# Altium integrated library ICs.IntLib: 20 symbols (part 2 of 2)
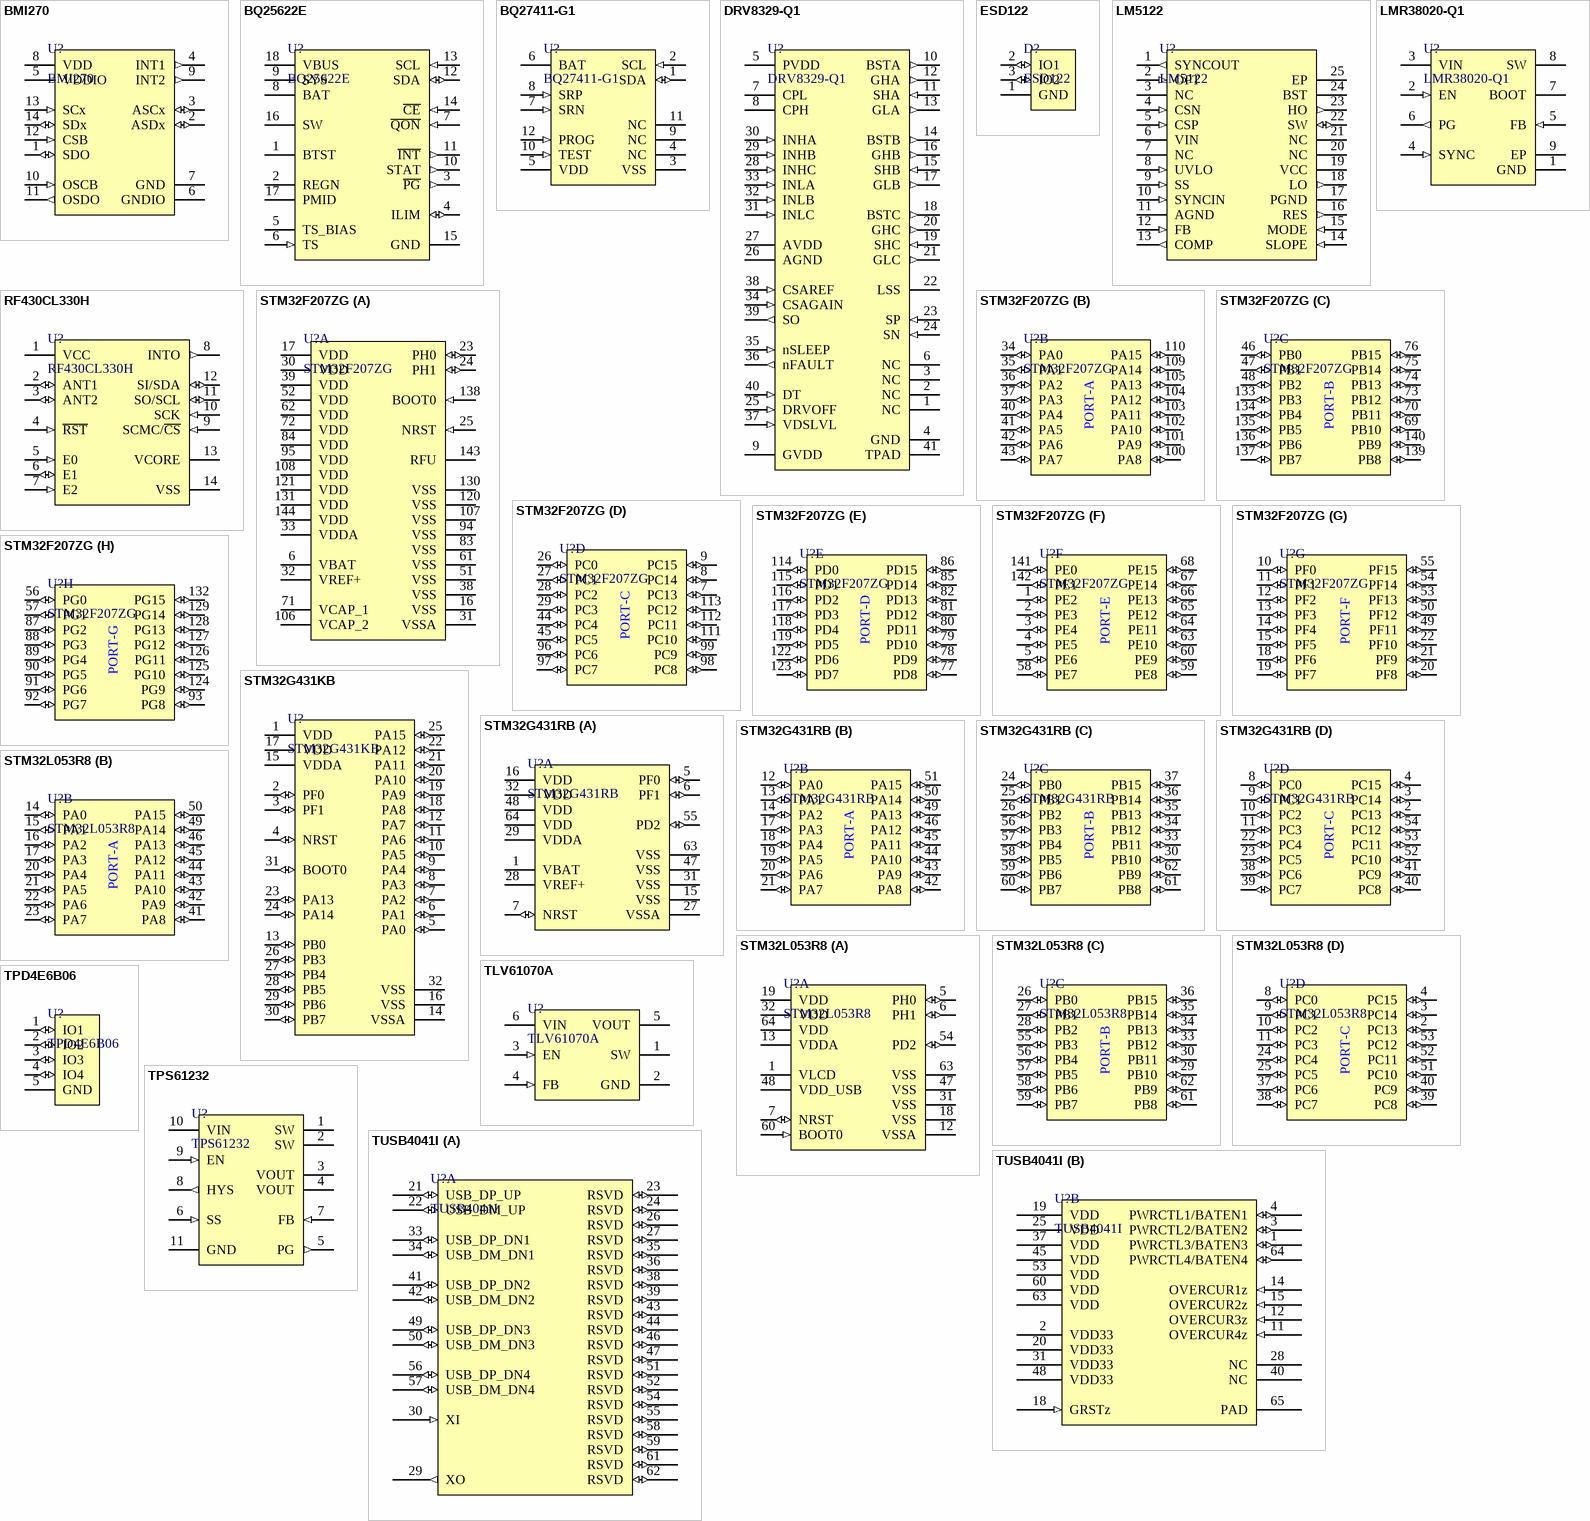
[diagram p2: symbols BMI270 to TUSB4041I]

## TPS61232
designator U?
5-A, 5-V Fixed Output Voltage High Efficiency Synchronous Boost Converter; Manufacturer 1: Texas Instruments; Manufacturer Part Number 1: TPS61232DRCR; Manufacturer Lifecycle Status: ACTIVE; Description 1: Switching Regulator, Current-mode, 6A, 2000kHz Switching Freq-Max, BICMOS, PDSO10; Category 1: Voltage Regulators - Switching; Efficiency: 96%; Max Duty Cycle: 90%; Max Input Voltage: 5.5V; Max Junction Temperature (Tj): 125°C; Max Output Current 1: 2.1A; Min Input Voltage: 2.3V; Mount 1: Surface Mount; Number of Outputs 1: 1; Number of Pins 1: 10; Output Current 1: 5A; Output Voltage 1: 5V; Quiescent Current: 35µA; Switching Frequency: 2MHz; RoHS 1: Compliant; Contact Plating: Gold; Height: 1mm; Lead Free 1: Lead Free; Length: 3mm; Lifecycle Status: Production; Max Operating Temperature 1: 85°C; Max Supply Voltage 1: 5.5V; Min Operating Temperature 1: -40°C; Min Supply Voltage 1: 2.3V; Operating Supply Voltage: 5.5V; Output Type: Fixed; Schedule B: 8542390000, 8542390000|8542390000|8542390000|8542390000|8542390000; Thickness: 900µm; Topology: Boost; Width: 3mm; ComponentLink3URL: https://datasheet.octopart.com:443/TPS61232DRCR-Texas-Instruments-datasheet-41205295.pdf?src-supplier=Texas+Instruments; ComponentLink3Description: https://datasheet.octopart.com:443/TPS61232DRCR-Texas-Instruments-datasheet-41205295.pdf?src-supplier=Texas+Instruments; Manufacturer Part Number 2: TPS61232DRCT; Supplier 1: DigiKey; Supplier Part Number 1: 296-44498-1-ND; Supplier 2: DigiKey; Supplier Part Number 2: 296-44498-6-ND; Supplier 3: DigiKey; Supplier Part Number 3: 296-44498-2-ND; Supplier 4: Mouser; Supplier Part Number 4: 595-TPS61232DRCR; Supplier 5: LCSC; Supplier Part Number 5: C544315; Supplier 6: Arrow Electronics; Supplier Part Number 6: TPS61232DRCT; Supplier 7: DigiKey; Supplier Part Number 7: 296-37990-1-ND; Supplier 8: DigiKey; Supplier Part Number 8: 296-37990-6-ND; Supplier 9: DigiKey; Supplier Part Number 9: 296-37990-2-ND; Supplier 10: Mouser; Supplier Part Number 10: 595-TPS61232DRCT
footprint TI-DRC0010G (TPS61232)
simulation model TPS61232_TRANS (Model Description)
pins: 1 SW (power) "The switch pin of the converter. It is connected to the drain of the internal Power MOSFETs.", 2 SW (power) "The switch pin of the converter. It is connected to the drain of the internal Power MOSFETs.", 3 VOUT (power) "Boost converter output pin.", 4 VOUT (power) "Boost converter output pin.", 5 PG (out) "Power good open drain output. Can be left floating if not used.", 6 SS (in) "Soft startup pin. A soft startup capacitor connects to this pin to set the soft start time.", 7 FB (in) "Voltage feedback of adjustable versions. Must be connected to VOUT on fixed output voltage version.", 8 HYS (out) "EN hysteresis program pin. Can be left floating if not used.", 9 EN (in) "Enable logic input. Logic HIGH enables the device. Logic LOW disables the device and turns it into shutdown mode. This pin must be terminated.", 10 VIN (power) "Supply voltage", 11 GND (power) "Ground"

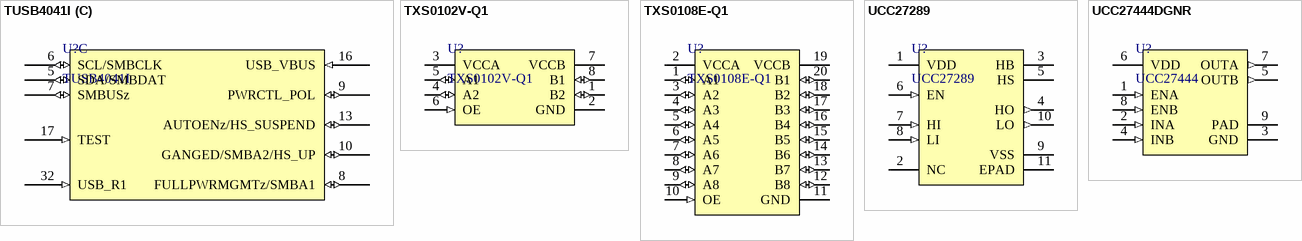
[diagram p1: symbols TUSB4041I to UCC27444DGNR]

## TUSB4041I
designator U?
4-port high-speed 480-Mbps USB 2.0 hub; Manufacturer 1: Texas Instruments; Manufacturer Part Number 1: TUSB4041IPAPR; Description 1: 4-port high-speed 480-Mbps USB 2.0 hub 64-HTQFP -40 to 85; Category 1: USB Interface ICs; Case/Package 1: HTQFP; Number of Pins 1: 64; Packaging 1: Cut Tape; Min Supply Voltage 1: 3mV; Max Supply Voltage 1: 3.6V; Data Rate: 480Mbps; Number of Ports: 4; USB Standard: USB 2.0; RoHS 1: Yes; Min Operating Temperature 1: -40°C; Max Operating Temperature 1: 85°C; Interface 1: USB; Series: -; Lead Free 1: Lead Free; RoHS Compliant 1: Yes; Reach SVHC Compliant: No; ComponentLink1URL: http://www.ti.com/general/docs/lit/getliterature.tsp?genericPartNumber=TUSB4041I&amp;&amp;fileType=pdf&src-supplier=Farnell; ComponentLink1Description: http://www.ti.com/general/docs/lit/getliterature.tsp?genericPartNumber=TUSB4041I&amp;&amp;fileType=pdf&src-supplier=Farnell; Manufacturer Part Number 2: TUSB4041IPAP; Supplier 1: Digi-Key; Supplier Part Number 1: 296-43143-1-ND; Supplier 2: Digi-Key; Supplier Part Number 2: 296-43143-6-ND; Supplier 3: Digi-Key; Supplier Part Number 3: 296-43143-2-ND; Supplier 4: Texas Instruments; Supplier Part Number 4: TUSB4041IPAPR; Supplier 5: Mouser; Supplier Part Number 5: 595-TUSB4041IPAPR; Supplier 6: Newark; Supplier Part Number 6: 28AH6281; Supplier 7: Farnell; Supplier Part Number 7: 3009584; Supplier 8: Farnell; Supplier Part Number 8: 3009584RL; Supplier 9: Digi-Key; Supplier Part Number 9: 296-46550-5-ND; Supplier 10: Texas Instruments; Supplier Part Number 10: TUSB4041IPAP; Supplier 11: Mouser; Supplier Part Number 11: 595-TUSB4041IPAP
footprint TI-PAP0064M (TUSB4041I)
ibis TUSB4041 (4-port high-speed 480-Mbps USB 2.0 hub)
part A pins: 21 USB_DP_UP (io) "USB high-speed differential transceiver (positive)", 22 USB_DM_UP (io) "USB high-speed differential transceiver (negative)", 23 RSVD (io) "Reserved. For internal use only and leave unconnected on the PCB", 24 RSVD (io) "Reserved. For internal use only and leave unconnected on the PCB", 26 RSVD (io) "Reserved. For internal use only and leave unconnected on the PCB", 27 RSVD (io) "Reserved. For internal use only and leave unconnected on the PCB", 29 XO (out) "Crystal output", 30 XI (in) "Crystal input", 33 USB_DP_DN1 (io) "USB high-speed differential transceiver (positive)", 34 USB_DM_DN1 (io) "USB high-speed differential transceiver (negative)", 35 RSVD (io) "Reserved. For internal use only and leave unconnected on the PCB", 36 RSVD (io) "Reserved. For internal use only and leave unconnected on the PCB", 38 RSVD (io) "Reserved. For internal use only and leave unconnected on the PCB", 39 RSVD (io) "Reserved. For internal use only and leave unconnected on the PCB", 41 USB_DP_DN2 (io) "USB high-speed differential transceiver (positive)", 42 USB_DM_DN2 (io) "USB high-speed differential transceiver (negative)", 43 RSVD (io) "Reserved. For internal use only and leave unconnected on the PCB", 44 RSVD (io) "Reserved. For internal use only and leave unconnected on the PCB", 46 RSVD (io) "Reserved. For internal use only and leave unconnected on the PCB", 47 RSVD (io) "Reserved. For internal use only and leave unconnected on the PCB", 49 USB_DP_DN3 (io) "USB high-speed differential transceiver (positive)", 50 USB_DM_DN3 (io) "USB high-speed differential transceiver (negative)", 51 RSVD (io) "Reserved. For internal use only and leave unconnected on the PCB", 52 RSVD (io) "Reserved. For internal use only and leave unconnected on the PCB", 54 RSVD (io) "Reserved. For internal use only and leave unconnected on the PCB", 55 RSVD (io) "Reserved. For internal use only and leave unconnected on the PCB", 56 USB_DP_DN4 (io) "USB high-speed differential transceiver (positive)", 57 USB_DM_DN4 (io) "USB high-speed differential transceiver (negative)", 58 RSVD (io) "Reserved. For internal use only and leave unconnected on the PCB", 59 RSVD (io) "Reserved. For internal use only and leave unconnected on the PCB", 61 RSVD (io) "Reserved. For internal use only and leave unconnected on the PCB", 62 RSVD (io) "Reserved. For internal use only and leave unconnected on the PCB"
part B pins: 1 PWRCTL3/BATEN3 (io) "The pin is used for control of the downstream power switch for port 3", 2 VDD33 (power) "3.3-V power rail", 3 PWRCTL2/BATEN2 (io) "The pin is used for control of the downstream power switch for port 2", 4 PWRCTL1/BATEN1 (io) "The pin is used for control of the downstream power switch for port 1", 11 OVERCUR4z (in) "USB port 4 overcurrent detection.", 12 OVERCUR3z (in) "USB port 3 overcurrent detection.", 14 OVERCUR1z (in) "USB port 1 overcurrent detection.", 15 OVERCUR2z (in) "USB port 2 overcurrent detection.", 18 GRSTz (in) "Global power reset", 19 VDD (power) "1.1-V power rail", 20 VDD33 (power) "3.3-V power rail", 25 VDD (power) "1.1-V power rail", 28 NC "No connection, leave floating", 31 VDD33 (power) "3.3-V power rail", 37 VDD (power) "1.1-V power rail", 40 NC "No connection, leave floating", 45 VDD (power) "1.1-V power rail", 48 VDD33 (power) "3.3-V power rail", 53 VDD (power) "1.1-V power rail", 60 VDD (power) "1.1-V power rail", 63 VDD (power) "1.1-V power rail", 64 PWRCTL4/BATEN4 (io) "The pin is used for control of the downstream power switch for port 4", 65 PAD (power) "Ground"
part C pins: 5 SDA/SMBDAT (io) "I2C data/SMBus data", 6 SCL/SMBCLK (io) "I2C clock/SMBus clock", 7 SMBUSz (io) "I2C/SMBus mode select", 8 FULLPWRMGMTz/SMBA1 (io) "Full power management enable/SMBus address bit 1", 9 PWRCTL_POL (io) "Power control polarity", 10 GANGED/SMBA2/HS_UP (io) "Ganged operation enable/SMBus address bit 2/HS connection status upstream port", 13 AUTOENz/HS_SUSPEND (io) "Automatic charge mode enable/HS suspend status", 16 USB_VBUS (in) "USB upstream port power monitor", 17 TEST (in) "This pin is reserved for factory test.", 32 USB_R1 (in) "Precision resistor reference"

## TXS0102V-Q1
designator U?
2-Bit Bi-Directional, Level-Shifting, Voltage Translator for Open-Drain and Push-Pull Applications; Manufacturer 1: Texas Instruments; Manufacturer Part Number 1: TXS0102VQDCURQ1; Manufacturer Lifecycle Status: ACTIVE; Description 1: Automotive 2-bit bidirectional level shifter for open-drain and push-pull applications 8-VSSOP -40 to 125; Category 1: Voltage Level Shifters; Case/Package 1: VSSOP; Number of Bits: 2; Number of Pins 1: 8; Supplier 1: DigiKey; Supplier Part Number 1: 296-TXS0102VQDCURQ1CT-ND; RoHS 1: Compliant; Height: 900µm; Length: 2.3mm; Lifecycle Status: Production; Thickness: 850µm; Topology: Push-Pull; Width: 2mm; ComponentLink1URL: https://sigma.octopart.com:443/167215082/technical_drawing/Texas-Instruments-TXS0102VQDCURQ1.pdf?src-supplier=Texas+Instruments; ComponentLink1Description: https://sigma.octopart.com:443/167215082/technical_drawing/Texas-Instruments-TXS0102VQDCURQ1.pdf?src-supplier=Texas+Instruments; Supplier 2: DigiKey; Supplier Part Number 2: 296-TXS0102VQDCURQ1DKR-ND; Supplier 3: DigiKey; Supplier Part Number 3: 296-TXS0102VQDCURQ1TR-ND; Supplier 4: Mouser; Supplier Part Number 4: 595-TXS0102VQDCURQ1; Supplier 5: Arrow Electronics; Supplier Part Number 5: TXS0102VQDCURQ1; Supplier 6: LCSC; Supplier Part Number 6: C42349189
footprint TI-DCU0008A (TXS0102V-Q1)
pins: 1 B2 (io) "Input/output B2. Referenced to VCCB.", 2 GND (power) "Ground", 3 VCCA (power) "A-port supply voltage. 1.65V ≤ VCCA  ≤ 3.6V and VCCA  ≤ VCCB", 4 A2 (io) "Input/output A2. Referenced to VCCA", 5 A1 (io) "Input/output A1. Referenced to VCCA", 6 OE (in) "Output enable (active High). Pull OE low to place all outputs in 3-state mode. Referenced to VCCA.", 7 VCCB (power) "B-port supply voltage. 2.3V ≤ VCCB  ≤ 5.5V", 8 B1 (io) "Input/output B1. Referenced to VCCB."

## TXS0108E-Q1
designator U?
8-Bit Bi-directional, Level-Shifting, Voltage Translator for Open-Drain and Push-Pull Applications; Manufacturer 1: Texas Instruments; Manufacturer Part Number 1: TXS0108EQDGSRQ1; Manufacturer Lifecycle Status: ACTIVE; Description 1: Automotive eight-bit bidirectional voltage level shifter for open-drain and push-pull applications 20-VSSOP -40 to 125; Category 1: Voltage Level Shifters; Case/Package 1: VSSOP; Number of Bits: 8; Number of Pins 1: 20; Supplier 1: DigiKey; Supplier Part Number 1: 296-TXS0108EQDGSRQ1TR-ND; RoHS 1: Compliant; Height: 1.1mm; Length: 5.1mm; Lifecycle Status: Production; Thickness: 950µm; Topology: Push-Pull; Width: 3mm; ComponentLink1URL: https://sigma.octopart.com:443/165785713/technical_drawing/Texas-Instruments-TXS0108EQDGSRQ1.pdf?src-supplier=Texas+Instruments; ComponentLink1Description: https://sigma.octopart.com:443/165785713/technical_drawing/Texas-Instruments-TXS0108EQDGSRQ1.pdf?src-supplier=Texas+Instruments; Supplier 2: Mouser; Supplier Part Number 2: 595-TXS0108EQDGSRQ1; Supplier 3: LCSC; Supplier Part Number 3: C43138308
ibis TXS0108E_PW (8-Bit Bi-directional, Level-Shifting, Voltage Translator for Open-Drain and Push-Pull Applications)
footprint TI-DGS0020A (TXS0108E-Q1)
pins: 1 A1 (io) "Input/output 1. Referenced to VCCA", 2 VCCA (power) "A-port supply voltage. 1.4V ≤ VCCA ≤ 3.6V, VCCA ≤ VCCB", 3 A2 (io) "Input/output 2. Referenced to VCCA", 4 A3 (io) "Input/output 3. Referenced to VCCA", 5 A4 (io) "Input/output 4. Referenced to VCCA", 6 A5 (io) "Input/output 5. Referenced to VCCA", 7 A6 (io) "Input/output 6. Referenced to VCCA", 8 A7 (io) "Input/output 7. Referenced to VCCA", 9 A8 (io) "Input/output 8. Referenced to VCCA", 10 OE (in) "3-state output-mode enable. Pull OE low to place all outputs in 3-state mode. Referenced to VCCA", 11 GND (power) "Ground", 12 B8 (io) "Input/output 8. Referenced to VCCB", 13 B7 (io) "Input/output 7. Referenced to VCCB", 14 B6 (io) "Input/output 6. Referenced to VCCB", 15 B5 (io) "Input/output 5. Referenced to VCCB", 16 B4 (io) "Input/output 4. Referenced to VCCB", 17 B3 (io) "Input/output 3. Referenced to VCCB", 18 B2 (io) "Input/output 2. Referenced to VCCB", 19 VCCB (power) "B-port supply voltage. 1.65V ≤ VCCB ≤ 5.5V", 20 B1 (io) "Input/output 1. Referenced to VCCB"

## UCC27289
designator U?
120V 3A half-bridge gate driver with 8V UVLO and enable options; Manufacturer 1: Texas Instruments; Manufacturer Part Number 1: UCC27289DRCR; Manufacturer Lifecycle Status: ACTIVE; Description 1: 120V 3A half-bridge gate driver with 8V UVLO and enable options 10-VSON -40 to 125; Category 1: Gate Drivers; Number of Pins 1: 10; Supplier 1: DigiKey; Supplier Part Number 1: 296-UCC27289DRCRCT-ND; RoHS 1: Compliant; Height: 1mm; Length: 3mm; Lifecycle Status: Production; Thickness: 900µm; Width: 3mm; ComponentLink1URL: https://octopart.com:443/opatz8j6/c1?t=yIsXHJkSDu5vev3DyVAj3kOkuWHygv9EyJKyCG1CowN4RaqxwmXODjOEwqM8Aj9DL_aHOfGFLEDNl8NAqm3cl0ZmB6Z4Mr5xtdosuXdPJpEtbJne8EgJBQ2Ip0o6l8vunBHct19qJmWZCWsqZ7cdJPsOvPSIJC8xsw8iFa2CSQqZc79pspJdPqQHTdbjfzPjrCL9Fz-UBKVC5yMUzctLm8raX-Vmw0V8z_Dqrkbi4reOvLMdzAWP21G4o9AP3GTyeG_DqJPcNrBkLzKpgdwAQpSs30OgCwwW5a-OlGDmIjXxSXCTQ3v--7N6ErbaXpb62t3hJyLp_zJ2KPU0xOcL2XS2pbpJoiZqUYOuu4epJL7WTFuoKeLkETQRJS52oniyV6Q0D2AHgg&src-supplier=Texas+Instruments; ComponentLink1Description: https://octopart.com:443/opatz8j6/c1?t=yIsXHJkSDu5vev3DyVAj3kOkuWHygv9EyJKyCG1CowN4RaqxwmXODjOEwqM8Aj9DL_aHOfGFLEDNl8NAqm3cl0ZmB6Z4Mr5xtdosuXdPJpEtbJne8EgJBQ2Ip0o6l8vunBHct19qJmWZCWsqZ7cdJPsOvPSIJC8xsw8iFa2CSQqZc79pspJdPqQHTdbjfzPjrCL9Fz-UBKVC5yMUzctLm8raX-Vmw0V8z_Dqrkbi4reOvLMdzAWP21G4o9AP3GTyeG_DqJPcNrBkLzKpgdwAQpSs30OgCwwW5a-OlGDmIjXxSXCTQ3v--7N6ErbaXpb62t3hJyLp_zJ2KPU0xOcL2XS2pbpJoiZqUYOuu4epJL7WTFuoKeLkETQRJS52oniyV6Q0D2AHgg&src-supplier=Texas+Instruments; Supplier 2: DigiKey; Supplier Part Number 2: 296-UCC27289DRCRDKR-ND; Supplier 3: DigiKey; Supplier Part Number 3: 296-UCC27289DRCRTR-ND; Supplier 4: Mouser; Supplier Part Number 4: 595-UCC27289DRCR; Supplier 5: LCSC; Supplier Part Number 5: C6581860
footprint TI-DRC0010J (UCC27289)
simulation model UCC27289 (Model Description)
pins: 1 VDD (power) "Positive supply to the low-side gate driver.", 2 NC "Not connected internally.", 3 HB (power) "High-side bootstrap supply.", 4 HO (out) "High-side output.", 5 HS (power) "High-side source connection.", 6 EN (in) "Enable input.", 7 HI (in) "High-side input.", 8 LI (in) "Low-side input.", 9 VSS (power) "Negative supply terminal for the device which is generally the system ground.", 10 LO (out) "Low-side output.", 11 EPAD (power) "Connect to a large thermal mass trace (generally IC ground plane) to improve thermal performance. This can only be electrically connected to VSS."

## UCC27444DGNR
designator U?, comment UCC27444
4-A Dual-Channel Low-Side Gate Driver with –5-V Input Capability; Manufacturer 1: Texas Instruments; Manufacturer Part Number 1: UCC27444DGNR; Manufacturer Lifecycle Status: ACTIVE; Description 1: 4-A dual-channel low-side gate driver with -5-V input capability 8-HVSSOP -40 to 125; Category 1: Gate Drivers; Number of Pins 1: 8; Supplier 1: DigiKey; Supplier Part Number 1: 296-UCC27444DGNRCT-ND; RoHS 1: Compliant; Height: 1.1mm; Length: 3mm; Lifecycle Status: Production; Thickness: 1.02mm; Width: 3mm; ComponentLink1URL: https://sigma.octopart.com:443/182858100/technical_drawing/Texas-Instruments-UCC27444DGNR.pdf?src-supplier=Texas+Instruments; ComponentLink1Description: https://sigma.octopart.com:443/182858100/technical_drawing/Texas-Instruments-UCC27444DGNR.pdf?src-supplier=Texas+Instruments; Supplier 2: DigiKey; Supplier Part Number 2: 296-UCC27444DGNRDKR-ND; Supplier 3: DigiKey; Supplier Part Number 3: 296-UCC27444DGNRTR-ND; Supplier 4: Mouser; Supplier Part Number 4: 595-UCC27444DGNR
footprint TI-DGN0008H (UCC27444)
pins: 1 ENA (in) "Enable input for Channel A", 2 INA (in) "Input to Channel A. INA is the non-inverting input of the UCC27444 device. Connect this pin to GND if unused.", 3 GND (power) "Ground", 4 INB (in) "Input to Channel B. INB is the non-inverting input of the UCC27444 device. Connect this pin to GND if unused.", 5 OUTB (out) "Channel B Output", 6 VDD (power) "Bias supply input", 7 OUTA (out) "Channel A Output", 8 ENB (in) "Enable input for Channel B", 9 PAD (power) "Connect to GND through large copper plane. This pad is not a low-impedance path to GND."